# EAGLE library part UG-2828GDEDF11 (library UG-2828GDEDF11)
128x128 RGB OLED Display module
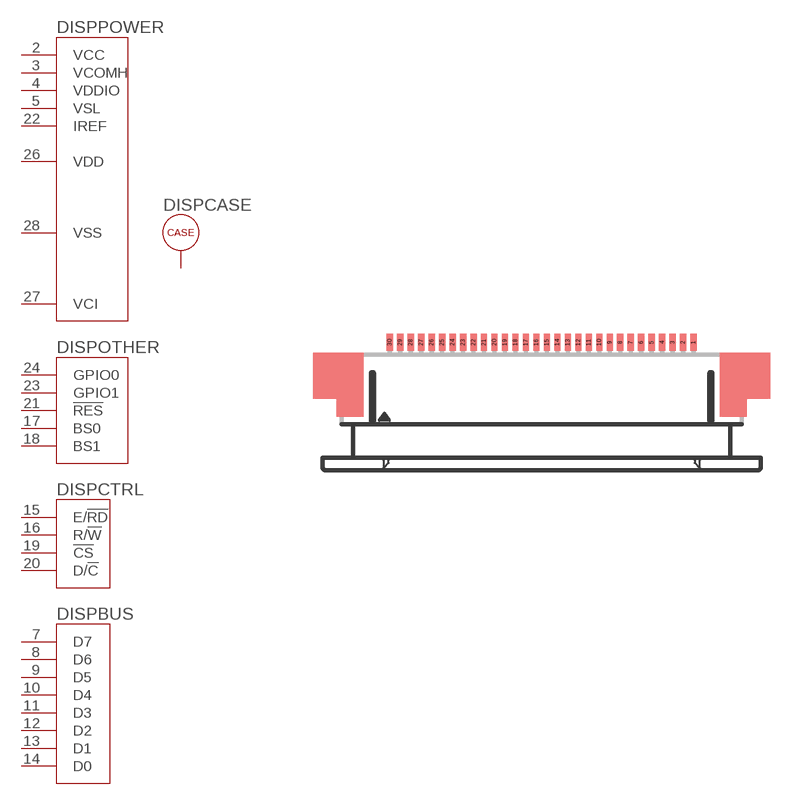
[diagram p0: symbol with the pads of 52745-3090; footprint 52745-3090]

Designator prefix DISP; gates BUS=DATA_BUS CTRL=BUS_CTRL OTHER=OTHER POWER=POWER CASE=CASE

## UG-2828GDEDF11  [52745-3090]
1  CASE:N.C.(GND)
2  POWER:VCC
3  POWER:VCOMH
4  POWER:VDDIO
5  POWER:VSL
7  BUS:D7
8  BUS:D6
9  BUS:D5
10  BUS:D4
11  BUS:D3
12  BUS:D2
13  BUS:D1
14  BUS:D0
15  CTRL:E/!RD!
16  CTRL:R/!W!
17  OTHER:BS0
18  OTHER:BS1
19  CTRL:!CS!
20  CTRL:D/!C!
21  OTHER:!RES!
22  POWER:IREF
23  OTHER:GPIO1
24  OTHER:GPIO0
26  POWER:VDD
27  POWER:VCI
28  POWER:VSS
30  CASE:N.C.(GND)

## Footprint 52745-3090 (pad centres in mm)
FFC/FPC-to-Board 0.50mm (.020") SMT Top Contact Right Angle, ZIF, Style Receptacle 52745 / 52435 Source: http://www.molex.com/product/ffc/52745.html
smd 0.3 x 0.8: 1 7.25,2.5; 2 6.75,2.5; 3 6.25,2.5; 4 5.75,2.5; 5 5.25,2.5; 6 4.75,2.5; 7 4.25,2.5; 8 3.75,2.5; 9 3.25,2.5; 10 2.75,2.5; 11 2.25,2.5; 12 1.75,2.5; 13 1.25,2.5; 14 0.75,2.5; 15 0.25,2.5; 16 -0.25,2.5; 17 -0.75,2.5; 18 -1.25,2.5; 19 -1.75,2.5; 20 -2.25,2.5; 21 -2.75,2.5; 22 -3.25,2.5; 23 -3.75,2.5; 24 -4.25,2.5; 25 -4.75,2.5; 26 -5.25,2.5; 27 -5.75,2.5; 28 -6.25,2.5; 29 -6.75,2.5; 30 -7.25,2.5